# Altium schematic symbol library 0402 10K.Schlib: 1 symbol
Pins are listed as number, name and electrical type; pins without a type are passive.

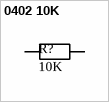
[diagram p0: symbol 0402 10K]

## 0402 10K
designator R?, comment value 10K  (hidden comment: Resistor)
1/16W ±1% ±100ppm/℃ 10kΩ 0402 Chip Resistor - Surface Mount ROHS; LCSC Part #: C25744
footprint RES 0402_1005 RF (Chip Resistor, 2-Leads, Body 1.0x0.5mm, IPC High Density)
pins: 1, 2